# EAGLE library part USB_MICRO (library everykey)
Micro USB connector (A/B/OTG) with ID pin
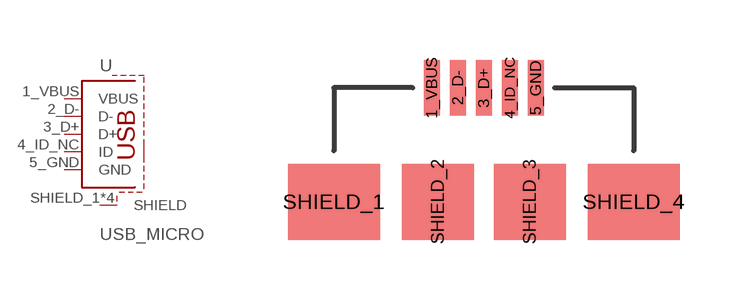
[diagram p22: symbol with the pads of USB_MICRO_SMD; footprint USB_MICRO_SMD]

Designator prefix -

## USB_MICROSMD  [USB_MICRO_SMD]
1_VBUS  VBUS  pwr
2_D-  D-
3_D+  D+
4_ID_NC  ID
5_GND  GND  pwr
SHIELD_1  SHIELD  pas
SHIELD_2  SHIELD  pas
SHIELD_3  SHIELD  pas
SHIELD_4  SHIELD  pas

## Footprint USB_MICRO_SMD (pad centres in mm)
Micro USB connector, standard (short edge down when Micro-B) configuration, full smd mount (no drill or mill holes), compatible with most standard products such as FCI 10104110-0001LF.
smd 0.4 x 1.4: 1_VBUS -1.3,2.85; 2_D- -0.65,2.85; 3_D+ 0,2.85; 4_ID_NC 0.65,2.85; 5_GND 1.3,2.85
smd 2.3 x 1.9: SHIELD_1 -3.75,0; SHIELD_4 3.75,0
smd 1.8 x 1.9: SHIELD_2 -1.15,0; SHIELD_3 1.15,0